# Altium footprint library LQH32DN_23L.PcbLib: 1 footprints
Each footprint in its own frame and in the unit in brackets; x right, y up, seen from the top. Pads: shape width x height; smd on the part's side, far side on the other; paste and mask are expansions set on the pad; w line width, h text height; cw(c..) or ccw(c..) is an arc to the next point about the centre after c.
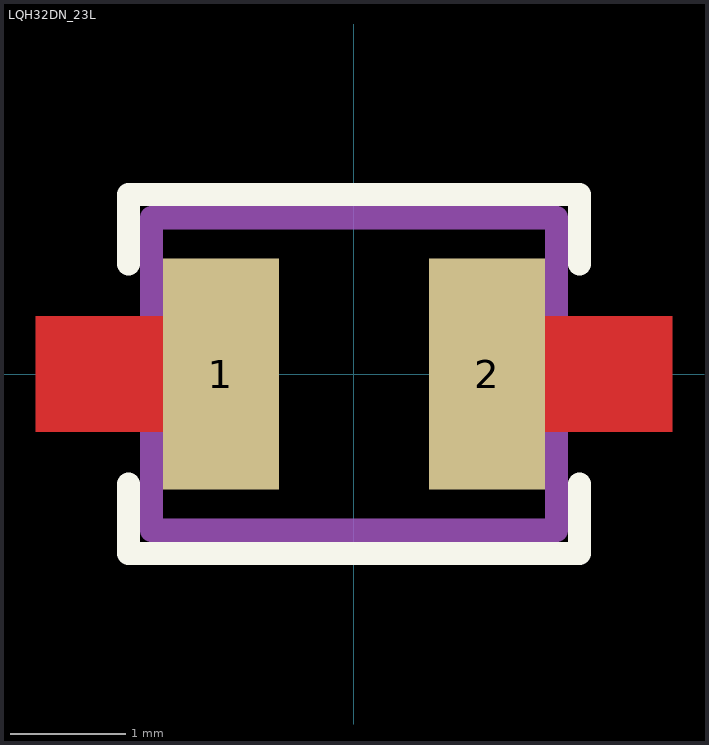
[diagram p0: the footprint, top view; thin cyan lines are the x and y axes]

## LQH32DN_23L [mm] "SpecNo.JELF243A-0117B-01"
height 2
pads (2):
  rect 1x2 smd: 1(-1.15,0) 2(1.15,0)
Top Layer:
  region: 2.75,0.5 1.65,0.5 1.65,-0.5 2.75,-0.5
  region: -1.65,0.5 -2.75,0.5 -2.75,-0.5 -1.65,-0.5
Top Overlay:
  lines w0.2: -1.95,-0.95 -1.95,-1.55 1.95,-1.55 1.95,-0.95 ; -1.95,0.95 -1.95,1.55 1.95,1.55 1.95,0.95
Mechanical 7:
  lines w0.2: -1.75,-1.35 1.75,-1.35 1.75,1.35 -1.75,1.35 -1.75,-1.35
3D body "User Library-LQH32PN_sw.STEP": height 1.55, standoff 0, extent -1.6,-1.25 1.6,1.25